# Altium integrated library Diode - Rectifier.IntLib: 777 symbols (part 10 of 12)
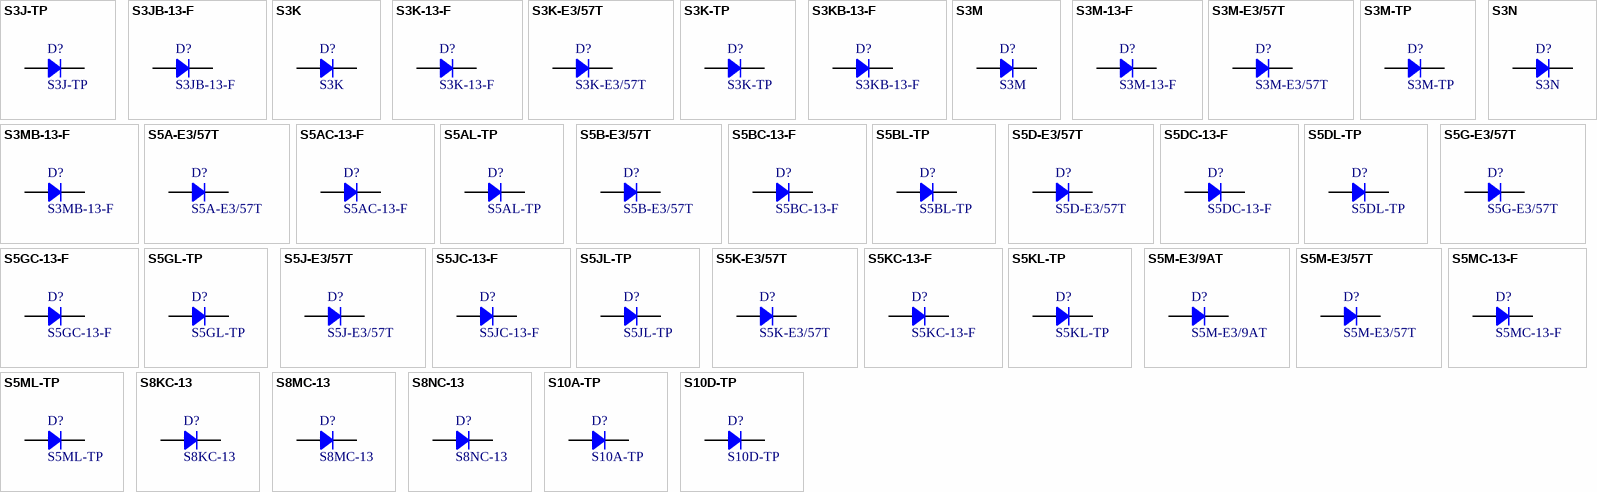
[diagram p28: symbols S3J-TP to S10D-TP]

## S5GC-13-F
designator D?
DIODE GEN PURP 400V 5A SMC; Manufacturer: Diodes Incorporated; Type: Standard; Current Reverse Leakage @ Vr: 10uA @ 400V; Voltage Forward (Vf): 1.15V @ 5A; Part Number: S5GC-13-F; PartId: 16197; Supplier 1: Digi-Key; Supplier Part Number 1: S5GC-FDITR-ND; ComponentLink1Description: Datasheet; ComponentLink1URL: http://www.diodes.com/_files/datasheets/ds16007.pdf; ComponentLink2Description: Digi-Key Listing; ComponentLink2URL: https://www.digikey.com/product-detail/en/diodes-incorporated/S5GC-13-F/S5GC-FDITR-ND/765422; Junction Operating Temperature: -65C ~ 150C; Price: 0.132; Device Package: DO-214AB, SMC; Voltage DC Reverse (Vr): 400V; Current Rectified: 5A
footprint DO214AB SMC
pins: 1, 2

## S5GL-TP
designator D?
DIODE GEN PURP 400V 5A DO214AB; Manufacturer: Micro Commercial Co; Type: Standard; Current Reverse Leakage @ Vr: 10uA @ 400V; Voltage Forward (Vf): 1.2V @ 5A; Part Number: S5GL-TP; PartId: 27909; Supplier 1: Digi-Key; Supplier Part Number 1: S5GL-TPCT-ND; ComponentLink1Description: Datasheet; ComponentLink1URL: http://www.mccsemi.com/up_pdf/S5AL~S5ML(SMC).PDF; ComponentLink2Description: Digi-Key Listing; ComponentLink2URL: https://www.digikey.com/product-detail/en/micro-commercial-co/S5GL-TP/S5GL-TPCT-ND/1306220; Junction Operating Temperature: -55C ~ 150C; Price: 0.49; Device Package: DO-214AB, SMC; Voltage DC Reverse (Vr): 400V; Current Rectified: 5A
footprint ST DO214AB SMC
pins: 1, 2

## S5J-E3/57T
designator D?
DIODE GEN PURP 600V 5A DO214AB; Manufacturer: Vishay Semiconductor Diodes Division; Type: Standard; Current Reverse Leakage @ Vr: 10uA @ 600V; Reverse Recovery Time (trr): 2.5us; Voltage Forward (Vf): 1.15V @ 5A; Part Number: S5J-E3/57T; PartId: 27739; Supplier 1: Digi-Key; Supplier Part Number 1: S5J-E3/57TGICT-ND; ComponentLink1Description: Datasheet; ComponentLink1URL: http://www.vishay.com/docs/88931/s5a.pdf; ComponentLink2Description: Digi-Key Listing; ComponentLink2URL: https://www.digikey.com/product-detail/en/vishay-semiconductor-diodes-division/S5J-E3-57T/S5J-E3-57TGICT-ND/1091614; Junction Operating Temperature: -55C ~ 150C; Price: 0.45; Device Package: DO-214AB, SMC; Voltage DC Reverse (Vr): 600V; Current Rectified: 5A
footprint ST DO214AB SMC
pins: 1, 2

## S5JC-13-F
designator D?
DIODE GEN PURP 600V 5A SMC; Manufacturer: Diodes Incorporated; Type: Standard; Current Reverse Leakage @ Vr: 10uA @ 600V; Voltage Forward (Vf): 1.15V @ 5A; Part Number: S5JC-13-F; PartId: 16202; Supplier 1: Digi-Key; Supplier Part Number 1: S5JC-FDITR-ND; ComponentLink1Description: Datasheet; ComponentLink1URL: http://www.diodes.com/_files/datasheets/ds16007.pdf; ComponentLink2Description: Digi-Key Listing; ComponentLink2URL: https://www.digikey.com/product-detail/en/diodes-incorporated/S5JC-13-F/S5JC-FDITR-ND/814737; Junction Operating Temperature: -65C ~ 150C; Price: 0.186; Device Package: DO-214AB, SMC; Voltage DC Reverse (Vr): 600V; Current Rectified: 5A
footprint DO214AB SMC
pins: 1, 2

## S5JL-TP
designator D?
DIODE GEN PURP 600V 5A DO214AB; Manufacturer: Micro Commercial Co; Type: Standard; Current Reverse Leakage @ Vr: 10uA @ 600V; Voltage Forward (Vf): 1.2V @ 5A; Part Number: S5JL-TP; PartId: 27820; Supplier 1: Digi-Key; Supplier Part Number 1: S5JL-TPCT-ND; ComponentLink1Description: Datasheet; ComponentLink1URL: http://www.mccsemi.com/up_pdf/S5AL~S5ML(SMC).PDF; ComponentLink2Description: Digi-Key Listing; ComponentLink2URL: https://www.digikey.com/product-detail/en/micro-commercial-co/S5JL-TP/S5JL-TPCT-ND/1306221; Junction Operating Temperature: -55C ~ 150C; Price: 0.49; Device Package: DO-214AB, SMC; Voltage DC Reverse (Vr): 600V; Current Rectified: 5A
footprint ST DO214AB SMC
pins: 1, 2

## S5K-E3/57T
designator D?
DIODE GEN PURP 800V 5A DO214AB; Manufacturer: Vishay Semiconductor Diodes Division; Type: Standard; Current Reverse Leakage @ Vr: 10uA @ 800V; Reverse Recovery Time (trr): 2.5us; Voltage Forward (Vf): 1.15V @ 5A; Part Number: S5K-E3/57T; PartId: 27817; Supplier 1: Digi-Key; Supplier Part Number 1: S5K-E3/57TGICT-ND; ComponentLink1Description: Datasheet; ComponentLink1URL: http://www.vishay.com/docs/88931/s5a.pdf; ComponentLink2Description: Digi-Key Listing; ComponentLink2URL: https://www.digikey.com/product-detail/en/vishay-semiconductor-diodes-division/S5K-E3-57T/S5K-E3-57TGICT-ND/4498272; Junction Operating Temperature: -55C ~ 150C; Price: 0.45; Device Package: DO-214AB, SMC; Voltage DC Reverse (Vr): 800V; Current Rectified: 5A
footprint ST DO214AB SMC
pins: 1, 2

## S5KC-13-F
designator D?
DIODE GEN PURP 800V 5A SMC; Manufacturer: Diodes Incorporated; Type: Standard; Current Reverse Leakage @ Vr: 10uA @ 800V; Voltage Forward (Vf): 1.15V @ 5A; Part Number: S5KC-13-F; PartId: 16222; Supplier 1: Digi-Key; Supplier Part Number 1: S5KC-FDITR-ND; ComponentLink1Description: Datasheet; ComponentLink1URL: http://www.diodes.com/_files/datasheets/ds16007.pdf; ComponentLink2Description: Digi-Key Listing; ComponentLink2URL: https://www.digikey.com/product-detail/en/diodes-incorporated/S5KC-13-F/S5KC-FDITR-ND/814736; Junction Operating Temperature: -65C ~ 150C; Price: 0.186; Device Package: DO-214AB, SMC; Voltage DC Reverse (Vr): 800V; Current Rectified: 5A
footprint DO214AB SMC
pins: 1, 2

## S5KL-TP
designator D?
DIODE GEN PURP 800V 5A DO214AB; Manufacturer: Micro Commercial Co; Type: Standard; Current Reverse Leakage @ Vr: 10uA @ 800V; Voltage Forward (Vf): 1.2V @ 5A; Part Number: S5KL-TP; PartId: 27824; Supplier 1: Digi-Key; Supplier Part Number 1: S5KL-TPCT-ND; ComponentLink1Description: Datasheet; ComponentLink1URL: http://www.mccsemi.com/up_pdf/S5AL~S5ML(SMC).PDF; ComponentLink2Description: Digi-Key Listing; ComponentLink2URL: https://www.digikey.com/product-detail/en/micro-commercial-co/S5KL-TP/S5KL-TPCT-ND/1306222; Junction Operating Temperature: -55C ~ 150C; Price: 0.49; Device Package: DO-214AB, SMC; Voltage DC Reverse (Vr): 800V; Current Rectified: 5A
footprint ST DO214AB SMC
pins: 1, 2

## S5M-E3/9AT
designator D?
DIODE GEN PURP 1KV 5A DO214AB; Manufacturer: Vishay Semiconductor Diodes Division; Type: Standard; Current Reverse Leakage @ Vr: 10uA @ 1000V; Reverse Recovery Time (trr): 2.5us; Voltage DC Reverse (Vr): 1000V (1kV); Voltage Forward (Vf): 1.15V @ 5A; Part Number: S5M-E3/9AT; PartId: 27769; Supplier 1: Digi-Key; Supplier Part Number 1: S5M-E3/9ATGICT-ND; ComponentLink1Description: Datasheet; ComponentLink1URL: http://www.vishay.com/docs/88931/s5a.pdf; ComponentLink2Description: Digi-Key Listing; ComponentLink2URL: https://www.digikey.com/product-detail/en/vishay-semiconductor-diodes-division/S5M-E3-9AT/S5M-E3-9ATGICT-ND/4498219; Junction Operating Temperature: -55C ~ 150C; Price: 0.45; Device Package: DO-214AB, SMC; Current Rectified: 5A
footprint ST DO214AB SMC
pins: 1, 2

## S5M-E3/57T
designator D?
DIODE GEN PURP 1KV 5A DO214AB; Manufacturer: Vishay Semiconductor Diodes Division; Type: Standard; Current Reverse Leakage @ Vr: 10uA @ 1000V; Reverse Recovery Time (trr): 2.5us; Voltage DC Reverse (Vr): 1000V (1kV); Voltage Forward (Vf): 1.15V @ 5A; Part Number: S5M-E3/57T; PartId: 27738; Supplier 1: Digi-Key; Supplier Part Number 1: S5M-E3/57TGICT-ND; ComponentLink1Description: Datasheet; ComponentLink1URL: http://www.vishay.com/docs/88931/s5a.pdf; ComponentLink2Description: Digi-Key Listing; ComponentLink2URL: https://www.digikey.com/product-detail/en/vishay-semiconductor-diodes-division/S5M-E3-57T/S5M-E3-57TGICT-ND/1091615; Junction Operating Temperature: -55C ~ 150C; Price: 0.45; Device Package: DO-214AB, SMC; Current Rectified: 5A
footprint ST DO214AB SMC
pins: 1, 2

## S5MC-13-F
designator D?
DIODE GEN PURP 1KV 5A SMC; Manufacturer: Diodes Incorporated; Type: Standard; Current Reverse Leakage @ Vr: 10uA @ 1000V; Voltage DC Reverse (Vr): 1000V (1kV); Voltage Forward (Vf): 1.15V @ 5A; Part Number: S5MC-13-F; PartId: 16201; Supplier 1: Digi-Key; Supplier Part Number 1: S5MC-FDITR-ND; ComponentLink1Description: Datasheet; ComponentLink1URL: http://www.diodes.com/_files/datasheets/ds16007.pdf; ComponentLink2Description: Digi-Key Listing; ComponentLink2URL: https://www.digikey.com/product-detail/en/diodes-incorporated/S5MC-13-F/S5MC-FDITR-ND/814735; Junction Operating Temperature: -65C ~ 150C; Price: 0.186; Device Package: DO-214AB, SMC; Current Rectified: 5A
footprint DO214AB SMC
pins: 1, 2

## S5ML-TP
designator D?
DIODE GEN PURP 1KV 5A DO214AB; Manufacturer: Micro Commercial Co; Type: Standard; Current Reverse Leakage @ Vr: 10uA @ 1000V; Voltage DC Reverse (Vr): 1000V (1kV); Voltage Forward (Vf): 1.2V @ 5A; Part Number: S5ML-TP; PartId: 27770; Supplier 1: Digi-Key; Supplier Part Number 1: S5ML-TPCT-ND; ComponentLink1Description: Datasheet; ComponentLink1URL: http://www.mccsemi.com/up_pdf/S5AL~S5ML(SMC).PDF; ComponentLink2Description: Digi-Key Listing; ComponentLink2URL: https://www.digikey.com/product-detail/en/micro-commercial-co/S5ML-TP/S5ML-TPCT-ND/1306223; Junction Operating Temperature: -55C ~ 150C; Price: 0.49; Device Package: DO-214AB, SMC; Current Rectified: 5A
footprint ST DO214AB SMC
pins: 1, 2

## S8KC-13
designator D?
DIODE GEN PURP 800V 8A SMC; Manufacturer: Diodes Incorporated; Type: Standard; Current Reverse Leakage @ Vr: 10uA @ 800V; Voltage Forward (Vf): 985mV @ 8A; Part Number: S8KC-13; PartId: 16208; Supplier 1: Digi-Key; Supplier Part Number 1: S8KCDITR-ND; ComponentLink1Description: Datasheet; ComponentLink1URL: http://www.diodes.com/_files/datasheets/ds31117.pdf; ComponentLink2Description: Digi-Key Listing; ComponentLink2URL: https://www.digikey.com/product-detail/en/diodes-incorporated/S8KC-13/S8KCDITR-ND/1774310; Junction Operating Temperature: -65C ~ 150C; Price: 0.232; Device Package: DO-214AB, SMC; Voltage DC Reverse (Vr): 800V; Current Rectified: 8A
footprint DO214AB SMC
pins: 1, 2

## S8MC-13
designator D?
DIODE GEN PURP 1KV 8A SMC; Manufacturer: Diodes Incorporated; Type: Standard; Current Reverse Leakage @ Vr: 10uA @ 1000V; Voltage DC Reverse (Vr): 1000V (1kV); Voltage Forward (Vf): 985mV @ 8A; Part Number: S8MC-13; PartId: 16207; Supplier 1: Digi-Key; Supplier Part Number 1: S8MCDITR-ND; ComponentLink1Description: Datasheet; ComponentLink1URL: http://www.diodes.com/_files/datasheets/ds31117.pdf; ComponentLink2Description: Digi-Key Listing; ComponentLink2URL: https://www.digikey.com/product-detail/en/diodes-incorporated/S8MC-13/S8MCDITR-ND/1774311; Junction Operating Temperature: -65C ~ 150C; Price: 0.232; Device Package: DO-214AB, SMC; Current Rectified: 8A
footprint DO214AB SMC
pins: 1, 2

## S8NC-13
designator D?
RECTIFIER 1200V 8A SMC; Manufacturer: Diodes Incorporated; Type: Standard; Current Reverse Leakage @ Vr: 10uA @ 1200V; Voltage DC Reverse (Vr): 1200V (1.2kV); Voltage Forward (Vf): 1.1V @ 8A; Part Number: S8NC-13; PartId: 16227; Supplier 1: Digi-Key; Supplier Part Number 1: S8NC-13DITR-ND; ComponentLink1Description: Datasheet; ComponentLink1URL: http://diodes.com/_files/datasheets/S8NC.pdf; ComponentLink2Description: Digi-Key Listing; ComponentLink2URL: https://www.digikey.com/product-detail/en/diodes-incorporated/S8NC-13/S8NC-13DITR-ND/5080341; Junction Operating Temperature: -65C ~ 150C; Price: 0.232; Device Package: DO-214AB, SMC; Current Rectified: 8A
footprint DO214AB SMC
pins: 1, 2

## S10A-TP
designator D?
DIODE GEN PURP 50V 10A DO214AB; Manufacturer: Micro Commercial Co; Type: Standard; Current Reverse Leakage @ Vr: 10uA @ 50V; Voltage Forward (Vf): 1.2V @ 10A; Part Number: S10A-TP; PartId: 27692; Supplier 1: Digi-Key; Supplier Part Number 1: S10A-TPMSCT-ND; ComponentLink1Description: Datasheet; ComponentLink1URL: http://www.mccsemi.com/up_pdf/S10A~S10M(HSMC).PDF; ComponentLink2Description: Digi-Key Listing; ComponentLink2URL: https://www.digikey.com/product-detail/en/micro-commercial-co/S10A-TP/S10A-TPMSCT-ND/2041589; Junction Operating Temperature: -55C ~ 150C; Price: 0.62; Device Package: DO-214AB, SMC; Voltage DC Reverse (Vr): 50V; Current Rectified: 10A
footprint ST DO214AB SMC
pins: 1, 2

## S10D-TP
designator D?
DIODE GEN PURP 200V 10A DO214AB; Manufacturer: Micro Commercial Co; Type: Standard; Current Reverse Leakage @ Vr: 10uA @ 200V; Voltage Forward (Vf): 1.2V @ 10A; Part Number: S10D-TP; PartId: 27746; Supplier 1: Digi-Key; Supplier Part Number 1: S10D-TPMSCT-ND; ComponentLink1Description: Datasheet; ComponentLink1URL: http://www.mccsemi.com/up_pdf/S10A~S10M(HSMC).PDF; ComponentLink2Description: Digi-Key Listing; ComponentLink2URL: https://www.digikey.com/product-detail/en/micro-commercial-co/S10D-TP/S10D-TPMSCT-ND/2041590; Junction Operating Temperature: -55C ~ 150C; Price: 0.62; Device Package: DO-214AB, SMC; Voltage DC Reverse (Vr): 200V; Current Rectified: 10A
footprint ST DO214AB SMC
pins: 1, 2

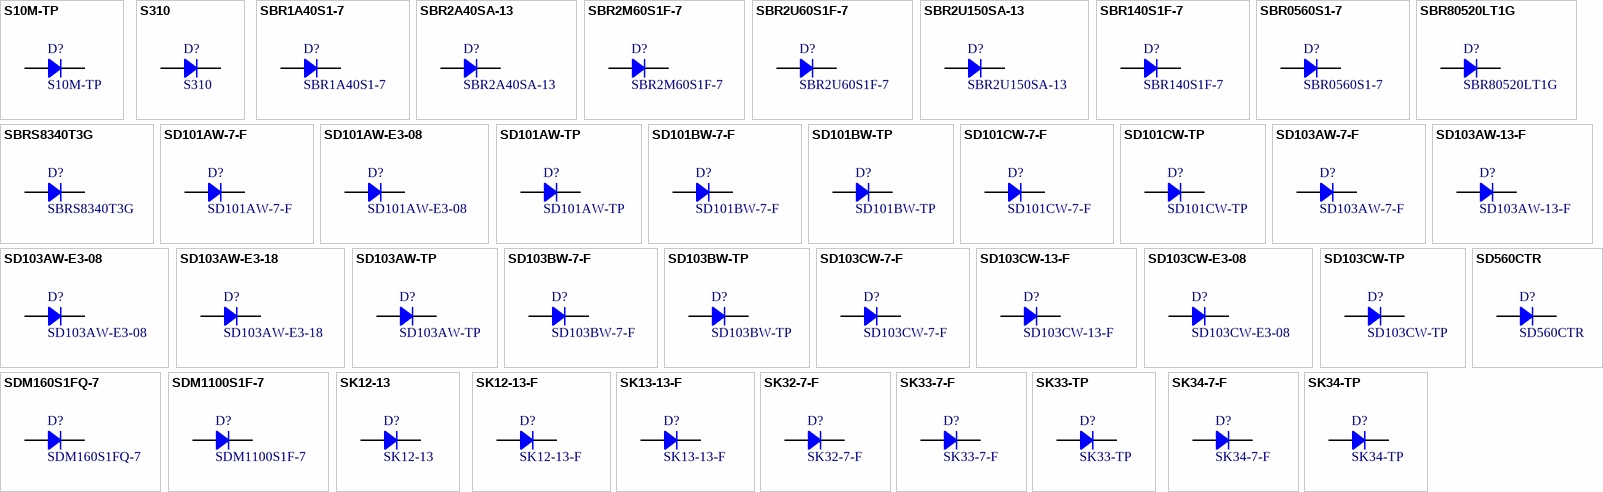
[diagram p15: symbols S10M-TP to SK34-TP]

## S10M-TP
designator D?
DIODE GEN PURP 1KV 10A DO214AB; Manufacturer: Micro Commercial Co; Type: Standard; Current Reverse Leakage @ Vr: 10uA @ 1000V; Voltage DC Reverse (Vr): 1000V (1kV); Voltage Forward (Vf): 1.2V @ 10A; Part Number: S10M-TP; PartId: 27693; Supplier 1: Digi-Key; Supplier Part Number 1: S10M-TPMSCT-ND; ComponentLink1Description: Datasheet; ComponentLink1URL: http://www.mccsemi.com/up_pdf/S10A~S10M(HSMC).PDF; ComponentLink2Description: Digi-Key Listing; ComponentLink2URL: https://www.digikey.com/product-detail/en/micro-commercial-co/S10M-TP/S10M-TPMSCT-ND/2041591; Junction Operating Temperature: -55C ~ 150C; Price: 0.62; Device Package: DO-214AB, SMC; Current Rectified: 10A
footprint ST DO214AB SMC
pins: 1, 2

## S310
designator D?
DIODE SCHOTTKY 100V 3A SMC; Manufacturer: Fairchild/ON Semiconductor; Current Reverse Leakage @ Vr: 500uA @ 100V; Voltage Forward (Vf): 850mV @ 3A; Part Number: S310; PartId: 27861; Supplier 1: Digi-Key; Supplier Part Number 1: S310FSCT-ND; ComponentLink1Description: Datasheet; ComponentLink1URL: https://www.fairchildsemi.com/datasheets/S3/S310.pdf; ComponentLink2Description: Digi-Key Listing; ComponentLink2URL: https://www.digikey.com/product-detail/en/fairchild-on-semiconductor/S310/S310FSCT-ND/3042700; Junction Operating Temperature: -55C ~ 150C; Price: 0.74; Type: Schottky; Device Package: DO-214AB, SMC; Voltage DC Reverse (Vr): 100V; Current Rectified: 3A
footprint ST DO214AB SMC
pins: 1, 2

## SBR1A40S1-7
designator D?
DIODE SBR 40V 1A SOD123; Manufacturer: Diodes Incorporated; Type: Super Barrier; Current Reverse Leakage @ Vr: 200uA @ 40V; Voltage Forward (Vf): 520mV @ 1A; Part Number: SBR1A40S1-7; PartId: 14616; Supplier 1: Digi-Key; Supplier Part Number 1: SBR1A40S1-7DITR-ND; ComponentLink1Description: Datasheet; ComponentLink1URL: http://www.diodes.com/_files/datasheets/SBR1A40S1.pdf; ComponentLink2Description: Digi-Key Listing; ComponentLink2URL: https://www.digikey.com/product-detail/en/diodes-incorporated/SBR1A40S1-7/SBR1A40S1-7DITR-ND/2755992; Junction Operating Temperature: -65C ~ 150C; Price: 0.1094; Device Package: SOD-123; Voltage DC Reverse (Vr): 40V; Current Rectified: 1A
footprint SOD-123
pins: 1, 2

## SBR2A40SA-13
designator D?
DIODE SBR 40V 2A SMA; Manufacturer: Diodes Incorporated; Type: Super Barrier; Current Reverse Leakage @ Vr: 500uA @ 40V; Voltage Forward (Vf): 550mV @ 2A; Part Number: SBR2A40SA-13; PartId: 16363; Supplier 1: Digi-Key; Supplier Part Number 1: SBR2A40SA-13DITR-ND; ComponentLink1Description: Datasheet; ComponentLink1URL: http://www.diodes.com/_files/datasheets/SBR2A40SA.pdf; ComponentLink2Description: Digi-Key Listing; ComponentLink2URL: https://www.digikey.com/product-detail/en/diodes-incorporated/SBR2A40SA-13/SBR2A40SA-13DITR-ND/2179750; Junction Operating Temperature: -65C ~ 150C; Price: 0.145; Device Package: DO-214AC, SMA; Voltage DC Reverse (Vr): 40V; Current Rectified: 2A
footprint DO214AC SMA
pins: 1, 2

## SBR2M60S1F-7
designator D?
DIODE SBR 60V 2A SOD123F; Manufacturer: Diodes Incorporated; Type: Super Barrier; Current Reverse Leakage @ Vr: 800nA @ 60V; Voltage Forward (Vf): 700mV @ 2A; Part Number: SBR2M60S1F-7; PartId: 29245; Supplier 1: Digi-Key; Supplier Part Number 1: SBR2M60S1F-7DICT-ND; ComponentLink1Description: Datasheet; ComponentLink1URL: http://www.diodes.com/_files/datasheets/SBR2M60S1F.pdf; ComponentLink2Description: Digi-Key Listing; ComponentLink2URL: https://www.digikey.com/product-detail/en/diodes-incorporated/SBR2M60S1F-7/SBR2M60S1F-7DICT-ND/6574823; Junction Operating Temperature: -65C ~ 175C; Price: 0.4; Device Package: SOD-123F; Voltage DC Reverse (Vr): 60V; Current Rectified: 2A
footprint SOD123F
pins: 1, 2

## SBR2U60S1F-7
designator D?
DIODE SBR 60V 2A SOD123F; Manufacturer: Diodes Incorporated; Type: Super Barrier; Current Reverse Leakage @ Vr: 150uA @ 60V; Voltage Forward (Vf): 510mV @ 2A; Part Number: SBR2U60S1F-7; PartId: 29272; Supplier 1: Digi-Key; Supplier Part Number 1: SBR2U60S1F-7DICT-ND; ComponentLink1Description: Datasheet; ComponentLink1URL: http://www.diodes.com/_files/datasheets/SBR2U60S1F.pdf; ComponentLink2Description: Digi-Key Listing; ComponentLink2URL: https://www.digikey.com/product-detail/en/diodes-incorporated/SBR2U60S1F-7/SBR2U60S1F-7DICT-ND/6010176; Junction Operating Temperature: -55C ~ 175C; Price: 0.4; Device Package: SOD-123F; Voltage DC Reverse (Vr): 60V; Current Rectified: 2A
footprint SOD123F
pins: 1, 2

## SBR2U150SA-13
designator D?
DIODE SBR 150V 2A SMA; Manufacturer: Diodes Incorporated; Type: Super Barrier; Current Reverse Leakage @ Vr: 75uA @ 150V; Voltage Forward (Vf): 800mV @ 2A; Part Number: SBR2U150SA-13; PartId: 16344; Supplier 1: Digi-Key; Supplier Part Number 1: SBR2U150SA-13DITR-ND; ComponentLink1Description: Datasheet; ComponentLink1URL: http://www.diodes.com/_files/datasheets/SBR2U150SA.pdf; ComponentLink2Description: Digi-Key Listing; ComponentLink2URL: https://www.digikey.com/product-detail/en/diodes-incorporated/SBR2U150SA-13/SBR2U150SA-13DITR-ND/2756000; Junction Operating Temperature: -65C ~ 175C; Price: 0.2295; Device Package: DO-214AC, SMA; Voltage DC Reverse (Vr): 150V; Current Rectified: 2A
footprint DO214AC SMA
pins: 1, 2

## SBR140S1F-7
designator D?
DIODE SBR 40V 1A SOD123F; Manufacturer: Diodes Incorporated; Type: Super Barrier; Current Reverse Leakage @ Vr: 100uA @ 40V; Voltage Forward (Vf): 510mV @ 1A; Part Number: SBR140S1F-7; PartId: 29217; Supplier 1: Digi-Key; Supplier Part Number 1: SBR140S1F-7DICT-ND; ComponentLink1Description: Datasheet; ComponentLink1URL: http://diodes.com/_files/datasheets/SBR140S1F.pdf; ComponentLink2Description: Digi-Key Listing; ComponentLink2URL: https://www.digikey.com/product-detail/en/diodes-incorporated/SBR140S1F-7/SBR140S1F-7DICT-ND/3983764; Junction Operating Temperature: -55C ~ 150C; Price: 0.41; Device Package: SOD-123F; Voltage DC Reverse (Vr): 40V; Current Rectified: 1A
footprint SOD123F
pins: 1, 2

## SBR0560S1-7
designator D?
DIODE SBR 60V 500MA SOD123; Manufacturer: Diodes Incorporated; Type: Super Barrier; Current Reverse Leakage @ Vr: 100uA @ 60V; Voltage Forward (Vf): 500mV @ 500mA; Part Number: SBR0560S1-7; PartId: 14613; Supplier 1: Digi-Key; Supplier Part Number 1: SBR0560S1DITR-ND; ComponentLink1Description: Datasheet; ComponentLink1URL: http://diodes.com/_files/datasheets/SBR0560S1.pdf; ComponentLink2Description: Digi-Key Listing; ComponentLink2URL: https://www.digikey.com/product-detail/en/diodes-incorporated/SBR0560S1-7/SBR0560S1DITR-ND/2075437; Junction Operating Temperature: -65C ~ 150C; Price: 0.085; Device Package: SOD-123; Voltage DC Reverse (Vr): 60V; Current Rectified: 500mA
footprint SOD-123
pins: 1, 2

## SBR80520LT1G
designator D?
DIODE SCHOTTKY 20V 500MA SOD123; Manufacturer: ON Semiconductor; Current Reverse Leakage @ Vr: 250uA @ 20V; Voltage Forward (Vf): 385mV @ 500mA; Part Number: SBR80520LT1G; PartId: 29413; Supplier 1: Digi-Key; Supplier Part Number 1: SBR80520LT1GOSCT-ND; ComponentLink1Description: Datasheet; ComponentLink1URL: http://www.onsemi.com/pub/Collateral/MBR0520LT1-D.PDF; ComponentLink2Description: Digi-Key Listing; ComponentLink2URL: https://www.digikey.com/product-detail/en/on-semiconductor/SBR80520LT1G/SBR80520LT1GOSCT-ND/5969271; Junction Operating Temperature: -65C ~ 125C; Price: 0.42; Type: Schottky; Device Package: SOD-123; Voltage DC Reverse (Vr): 20V; Current Rectified: 500mA
footprint SOD-123
pins: 1, 2

## SBRS8340T3G
designator D?
DIODE SCHOTTKY 40V 3A SMC; Manufacturer: ON Semiconductor; Current Reverse Leakage @ Vr: 2mA @ 40V; Voltage Forward (Vf): 500mV @ 3A; Part Number: SBRS8340T3G; PartId: 27742; Supplier 1: Digi-Key; Supplier Part Number 1: SBRS8340T3GOSCT-ND; ComponentLink1Description: Datasheet; ComponentLink1URL: http://www.onsemi.com/pub/Collateral/MBRS340T3-D.PDF; ComponentLink2Description: Digi-Key Listing; ComponentLink2URL: https://www.digikey.com/product-detail/en/on-semiconductor/SBRS8340T3G/SBRS8340T3GOSCT-ND/3487489; Junction Operating Temperature: -65C ~ 150C; Price: 0.57; Type: Schottky; Device Package: DO-214AB, SMC; Voltage DC Reverse (Vr): 40V; Current Rectified: 3A
footprint ST DO214AB SMC
pins: 1, 2

## SD101AW-7-F
designator D?
DIODE SCHOTTKY 60V 15MA SOD123; Manufacturer: Diodes Incorporated; Current Reverse Leakage @ Vr: 200nA @ 50V; Reverse Recovery Time (trr): 1ns; Current Rectified: 15mA (DC); Voltage Forward (Vf): 1V @ 15mA; Part Number: SD101AW-7-F; PartId: 14608; Supplier 1: Digi-Key; Supplier Part Number 1: SD101AW-7FDITR-ND; ComponentLink1Description: Datasheet; ComponentLink1URL: http://www.diodes.com/_files/datasheets/ds11012.pdf; ComponentLink2Description: Digi-Key Listing; ComponentLink2URL: https://www.digikey.com/product-detail/en/diodes-incorporated/SD101AW-7-F/SD101AW-7FDITR-ND/1155357; Junction Operating Temperature: -65C ~ 125C; Price: 0.081; Type: Schottky; Device Package: SOD-123; Voltage DC Reverse (Vr): 60V
footprint SOD-123
pins: 1, 2

## SD101AW-E3-08
designator D?
DIODE SCHOTTKY 400MW 60V SOD123; Manufacturer: Vishay Semiconductor Diodes Division; Current Reverse Leakage @ Vr: 200nA @ 50V; Reverse Recovery Time (trr): 1ns; Current Rectified: 30mA (DC); Voltage Forward (Vf): 1V @ 15mA; Part Number: SD101AW-E3-08; PartId: 29408; Supplier 1: Digi-Key; Supplier Part Number 1: SD101AW-E3-08GICT-ND; ComponentLink1Description: Datasheet; ComponentLink1URL: http://www.vishay.com/docs/85679/85679.pdf; ComponentLink2Description: Digi-Key Listing; ComponentLink2URL: https://www.digikey.com/product-detail/en/vishay-semiconductor-diodes-division/SD101AW-E3-08/SD101AW-E3-08GICT-ND/6228504; Junction Operating Temperature: -55C ~ 125C; Price: 0.33; Type: Schottky; Device Package: SOD-123; Voltage DC Reverse (Vr): 60V
footprint SOD-123
pins: 1, 2

## SD101AW-TP
designator D?
DIODE SCHOTTKY 60V 15MA SOD123; Manufacturer: Micro Commercial Co; Current Reverse Leakage @ Vr: 200nA @ 50V; Reverse Recovery Time (trr): 1ns; Current Rectified: 15mA (DC); Voltage Forward (Vf): 1V @ 15mA; Part Number: SD101AW-TP; PartId: 29371; Supplier 1: Digi-Key; Supplier Part Number 1: SD101AWTPMSCT-ND; ComponentLink1Description: Datasheet; ComponentLink1URL: http://www.mccsemi.com/up_pdf/SD101AW-SD101CW(SOD-123).PDF; ComponentLink2Description: Digi-Key Listing; ComponentLink2URL: https://www.digikey.com/product-detail/en/micro-commercial-co/SD101AW-TP/SD101AWTPMSCT-ND/717414; Junction Operating Temperature: 125C (Max); Price: 0.35; Type: Schottky; Device Package: SOD-123; Voltage DC Reverse (Vr): 60V
footprint SOD-123
pins: 1, 2

## SD101BW-7-F
designator D?
DIODE SCHOTTKY 50V 15MA SOD123; Manufacturer: Diodes Incorporated; Current Reverse Leakage @ Vr: 200nA @ 40V; Reverse Recovery Time (trr): 1ns; Current Rectified: 15mA (DC); Voltage Forward (Vf): 950mV @ 15mA; Part Number: SD101BW-7-F; PartId: 14610; Supplier 1: Digi-Key; Supplier Part Number 1: SD101BW-FDITR-ND; ComponentLink1Description: Datasheet; ComponentLink1URL: http://www.diodes.com/_files/datasheets/ds11012.pdf; ComponentLink2Description: Digi-Key Listing; ComponentLink2URL: https://www.digikey.com/product-detail/en/diodes-incorporated/SD101BW-7-F/SD101BW-FDITR-ND/1935416; Junction Operating Temperature: -65C ~ 125C; Price: 0.081; Type: Schottky; Device Package: SOD-123; Voltage DC Reverse (Vr): 50V
footprint SOD-123
pins: 1, 2

## SD101BW-TP
designator D?
DIODE SCHOTTKY 50V 15MA SOD123; Manufacturer: Micro Commercial Co; Current Reverse Leakage @ Vr: 200nA @ 40V; Reverse Recovery Time (trr): 1ns; Current Rectified: 15mA (DC); Voltage Forward (Vf): 950mV @ 15mA; Part Number: SD101BW-TP; PartId: 29420; Supplier 1: Digi-Key; Supplier Part Number 1: SD101BWTPMSCT-ND; ComponentLink1Description: Datasheet; ComponentLink1URL: http://www.mccsemi.com/up_pdf/SD101AW-SD101CW(SOD-123).PDF; ComponentLink2Description: Digi-Key Listing; ComponentLink2URL: https://www.digikey.com/product-detail/en/micro-commercial-co/SD101BW-TP/SD101BWTPMSCT-ND/717416; Junction Operating Temperature: 125C (Max); Price: 0.35; Type: Schottky; Device Package: SOD-123; Voltage DC Reverse (Vr): 50V
footprint SOD-123
pins: 1, 2

## SD101CW-7-F
designator D?
DIODE SCHOTTKY 40V 15MA SOD123; Manufacturer: Diodes Incorporated; Current Reverse Leakage @ Vr: 200nA @ 30V; Reverse Recovery Time (trr): 1ns; Current Rectified: 15mA (DC); Voltage Forward (Vf): 900mV @ 15mA; Part Number: SD101CW-7-F; PartId: 14609; Supplier 1: Digi-Key; Supplier Part Number 1: SD101CW-FDITR-ND; ComponentLink1Description: Datasheet; ComponentLink1URL: http://www.diodes.com/_files/datasheets/ds11012.pdf; ComponentLink2Description: Digi-Key Listing; ComponentLink2URL: https://www.digikey.com/product-detail/en/diodes-incorporated/SD101CW-7-F/SD101CW-FDITR-ND/1206639; Junction Operating Temperature: -65C ~ 125C; Price: 0.081; Type: Schottky; Device Package: SOD-123; Voltage DC Reverse (Vr): 40V
footprint SOD-123
pins: 1, 2

## SD101CW-TP
designator D?
DIODE SCHOTTKY 40V 15MA SOD123; Manufacturer: Micro Commercial Co; Current Reverse Leakage @ Vr: 200nA @ 30V; Reverse Recovery Time (trr): 1ns; Current Rectified: 15mA (DC); Voltage Forward (Vf): 900mV @ 15mA; Part Number: SD101CW-TP; PartId: 29400; Supplier 1: Digi-Key; Supplier Part Number 1: SD101CWTPMSCT-ND; ComponentLink1Description: Datasheet; ComponentLink1URL: http://www.mccsemi.com/up_pdf/SD101AW-SD101CW(SOD-123).PDF; ComponentLink2Description: Digi-Key Listing; ComponentLink2URL: https://www.digikey.com/product-detail/en/micro-commercial-co/SD101CW-TP/SD101CWTPMSCT-ND/717418; Junction Operating Temperature: 125C (Max); Price: 0.35; Type: Schottky; Device Package: SOD-123; Voltage DC Reverse (Vr): 40V
footprint SOD-123
pins: 1, 2

## SD103AW-7-F
designator D?
DIODE SCHOTTKY 40V 350MA SOD123; Manufacturer: Diodes Incorporated; Current Reverse Leakage @ Vr: 5uA @ 30V; Reverse Recovery Time (trr): 10ns; Current Rectified: 350mA (DC); Voltage Forward (Vf): 600mV @ 200mA; Part Number: SD103AW-7-F; PartId: 14607; Supplier 1: Digi-Key; Supplier Part Number 1: SD103AW7-FDITR-ND; ComponentLink1Description: Datasheet; ComponentLink1URL: http://www.diodes.com/_files/datasheets/ds11013.pdf; ComponentLink2Description: Digi-Key Listing; ComponentLink2URL: https://www.digikey.com/product-detail/en/diodes-incorporated/SD103AW-7-F/SD103AW7-FDITR-ND/1306103; Junction Operating Temperature: -65C ~ 125C; Price: 0.081; Type: Schottky; Device Package: SOD-123; Voltage DC Reverse (Vr): 40V
footprint SOD-123
pins: 1, 2

## SD103AW-13-F
designator D?
DIODE SCHOTTKY 40V 350MA SOD123; Manufacturer: Diodes Incorporated; Current Reverse Leakage @ Vr: 5uA @ 30V; Reverse Recovery Time (trr): 10ns; Current Rectified: 350mA (DC); Voltage Forward (Vf): 600mV @ 200mA; Part Number: SD103AW-13-F; PartId: 14602; Supplier 1: Digi-Key; Supplier Part Number 1: SD103AW-FDITR-ND; ComponentLink1Description: Datasheet; ComponentLink1URL: http://www.diodes.com/_files/datasheets/ds11013.pdf; ComponentLink2Description: Digi-Key Listing; ComponentLink2URL: https://www.digikey.com/product-detail/en/diodes-incorporated/SD103AW-13-F/SD103AW-FDITR-ND/969733; Junction Operating Temperature: -65C ~ 125C; Price: 0.0697; Type: Schottky; Device Package: SOD-123; Voltage DC Reverse (Vr): 40V
footprint SOD-123
pins: 1, 2

## SD103AW-E3-08
designator D?
DIODE SCHOTTKY 40V SOD123; Manufacturer: Vishay Semiconductor Diodes Division; Current Reverse Leakage @ Vr: 5uA @ 30V; Reverse Recovery Time (trr): 10ns; Voltage Forward (Vf): 600mV @ 200mA; Part Number: SD103AW-E3-08; PartId: 29383; Supplier 1: Digi-Key; Supplier Part Number 1: SD103AW-E3-08CT-ND; ComponentLink1Description: Datasheet; ComponentLink1URL: http://www.vishay.com/docs/85681/sd103aw.pdf; ComponentLink2Description: Digi-Key Listing; ComponentLink2URL: https://www.digikey.com/product-detail/en/vishay-semiconductor-diodes-division/SD103AW-E3-08/SD103AW-E3-08CT-ND/3104491; Junction Operating Temperature: 125C (Max); Price: 0.35; Type: Schottky; Device Package: SOD-123; Voltage DC Reverse (Vr): 40V
footprint SOD-123
pins: 1, 2

## SD103AW-E3-18
designator D?
DIODE SCHOTTKY 40V SOD123; Manufacturer: Vishay Semiconductor Diodes Division; Current Reverse Leakage @ Vr: 5uA @ 30V; Reverse Recovery Time (trr): 10ns; Voltage Forward (Vf): 600mV @ 200mA; Part Number: SD103AW-E3-18; PartId: 29370; Supplier 1: Digi-Key; Supplier Part Number 1: SD103AW-E3-18CT-ND; ComponentLink1Description: Datasheet; ComponentLink1URL: http://www.vishay.com/docs/85681/sd103aw.pdf; ComponentLink2Description: Digi-Key Listing; ComponentLink2URL: https://www.digikey.com/product-detail/en/vishay-semiconductor-diodes-division/SD103AW-E3-18/SD103AW-E3-18CT-ND/3104492; Junction Operating Temperature: 125C (Max); Price: 0.35; Type: Schottky; Device Package: SOD-123; Voltage DC Reverse (Vr): 40V
footprint SOD-123
pins: 1, 2

## SD103AW-TP
designator D?
DIODE SCHOTTKY 40V 350MA SOD123; Manufacturer: Micro Commercial Co; Current Reverse Leakage @ Vr: 5uA @ 30V; Reverse Recovery Time (trr): 10ns; Voltage Forward (Vf): 600mV @ 200mA; Part Number: SD103AW-TP; PartId: 29373; Supplier 1: Digi-Key; Supplier Part Number 1: SD103AWTPMSCT-ND; ComponentLink1Description: Datasheet; ComponentLink1URL: http://www.mccsemi.com/up_pdf/SD103AW-SD103CW(SOD-123).PDF; ComponentLink2Description: Digi-Key Listing; ComponentLink2URL: https://www.digikey.com/product-detail/en/micro-commercial-co/SD103AW-TP/SD103AWTPMSCT-ND/717420; Junction Operating Temperature: -55C ~ 125C; Price: 0.35; Type: Schottky; Device Package: SOD-123; Voltage DC Reverse (Vr): 40V; Current Rectified: 350mA
footprint SOD-123
pins: 1, 2

## SD103BW-7-F
designator D?
DIODE SCHOTTKY 30V 350MA SOD123; Manufacturer: Diodes Incorporated; Current Reverse Leakage @ Vr: 5uA @ 20V; Reverse Recovery Time (trr): 10ns; Current Rectified: 350mA (DC); Voltage Forward (Vf): 600mV @ 200mA; Part Number: SD103BW-7-F; PartId: 29390; Supplier 1: Digi-Key; Supplier Part Number 1: SD103BW-7-FDICT-ND; ComponentLink1Description: Datasheet; ComponentLink1URL: http://www.diodes.com/_files/datasheets/ds11013.pdf; ComponentLink2Description: Digi-Key Listing; ComponentLink2URL: https://www.digikey.com/product-detail/en/diodes-incorporated/SD103BW-7-F/SD103BW-7-FDICT-ND/3053320; Junction Operating Temperature: -65C ~ 125C; Price: 0.39; Type: Schottky; Device Package: SOD-123; Voltage DC Reverse (Vr): 30V
footprint SOD-123
pins: 1, 2

## SD103BW-TP
designator D?
DIODE SCHOTTKY 30V 350MA SOD123; Manufacturer: Micro Commercial Co; Current Reverse Leakage @ Vr: 5uA @ 20V; Reverse Recovery Time (trr): 10ns; Voltage Forward (Vf): 600mV @ 200mA; Part Number: SD103BW-TP; PartId: 29422; Supplier 1: Digi-Key; Supplier Part Number 1: SD103BWTPMSCT-ND; ComponentLink1Description: Datasheet; ComponentLink1URL: http://www.mccsemi.com/up_pdf/SD103AW-SD103CW(SOD-123).PDF; ComponentLink2Description: Digi-Key Listing; ComponentLink2URL: https://www.digikey.com/product-detail/en/micro-commercial-co/SD103BW-TP/SD103BWTPMSCT-ND/717422; Junction Operating Temperature: -55C ~ 125C; Price: 0.35; Type: Schottky; Device Package: SOD-123; Voltage DC Reverse (Vr): 30V; Current Rectified: 350mA
footprint SOD-123
pins: 1, 2

## SD103CW-7-F
designator D?
DIODE SCHOTTKY 20V 350MA SOD123; Manufacturer: Diodes Incorporated; Current Reverse Leakage @ Vr: 5uA @ 10V; Reverse Recovery Time (trr): 10ns; Current Rectified: 350mA (DC); Voltage Forward (Vf): 600mV @ 200mA; Part Number: SD103CW-7-F; PartId: 14611; Supplier 1: Digi-Key; Supplier Part Number 1: SD103CW-7-FDITR-ND; ComponentLink1Description: Datasheet; ComponentLink1URL: http://www.diodes.com/_files/datasheets/ds11013.pdf; ComponentLink2Description: Digi-Key Listing; ComponentLink2URL: https://www.digikey.com/product-detail/en/diodes-incorporated/SD103CW-7-F/SD103CW-7-FDITR-ND/1935418; Junction Operating Temperature: -65C ~ 125C; Price: 0.081; Type: Schottky; Device Package: SOD-123; Voltage DC Reverse (Vr): 20V
footprint SOD-123
pins: 1, 2

## SD103CW-13-F
designator D?
DIODE SCHOTTKY 20V 350MA SOD123; Manufacturer: Diodes Incorporated; Current Reverse Leakage @ Vr: 5uA @ 10V; Reverse Recovery Time (trr): 10ns; Current Rectified: 350mA (DC); Voltage Forward (Vf): 600mV @ 200mA; Part Number: SD103CW-13-F; PartId: 14603; Supplier 1: Digi-Key; Supplier Part Number 1: SD103CW-FDITR-ND; ComponentLink1Description: Datasheet; ComponentLink1URL: http://www.diodes.com/_files/datasheets/ds11013.pdf; ComponentLink2Description: Digi-Key Listing; ComponentLink2URL: https://www.digikey.com/product-detail/en/diodes-incorporated/SD103CW-13-F/SD103CW-FDITR-ND/725030; Junction Operating Temperature: -65C ~ 125C; Price: 0.0697; Type: Schottky; Device Package: SOD-123; Voltage DC Reverse (Vr): 20V
footprint SOD-123
pins: 1, 2

## SD103CW-E3-08
designator D?
DIODE SCHOTTKY 20V SOD123; Manufacturer: Vishay Semiconductor Diodes Division; Current Reverse Leakage @ Vr: 5uA @ 10V; Reverse Recovery Time (trr): 10ns; Voltage Forward (Vf): 600mV @ 200mA; Part Number: SD103CW-E3-08; PartId: 29403; Supplier 1: Digi-Key; Supplier Part Number 1: SD103CW-E3-08CT-ND; ComponentLink1Description: Datasheet; ComponentLink1URL: http://www.vishay.com/docs/85681/sd103aw.pdf; ComponentLink2Description: Digi-Key Listing; ComponentLink2URL: https://www.digikey.com/product-detail/en/vishay-semiconductor-diodes-division/SD103CW-E3-08/SD103CW-E3-08CT-ND/3104493; Junction Operating Temperature: 125C (Max); Price: 0.35; Type: Schottky; Device Package: SOD-123; Voltage DC Reverse (Vr): 20V
footprint SOD-123
pins: 1, 2

## SD103CW-TP
designator D?
DIODE SCHOTTKY 20V 350MA SOD123; Manufacturer: Micro Commercial Co; Current Reverse Leakage @ Vr: 5uA @ 10V; Reverse Recovery Time (trr): 10ns; Voltage Forward (Vf): 600mV @ 200mA; Part Number: SD103CW-TP; PartId: 29372; Supplier 1: Digi-Key; Supplier Part Number 1: SD103CWTPMSCT-ND; ComponentLink1Description: Datasheet; ComponentLink1URL: http://www.mccsemi.com/up_pdf/SD103AW-SD103CW(SOD-123).PDF; ComponentLink2Description: Digi-Key Listing; ComponentLink2URL: https://www.digikey.com/product-detail/en/micro-commercial-co/SD103CW-TP/SD103CWTPMSCT-ND/717424; Junction Operating Temperature: -55C ~ 125C; Price: 0.35; Type: Schottky; Device Package: SOD-123; Voltage DC Reverse (Vr): 20V; Current Rectified: 350mA
footprint SOD-123
pins: 1, 2

## SD560CTR
designator D?
DIODE GEN PURP 60V 5A SMC; Manufacturer: SMC Diode Solutions; Type: Standard; Current Reverse Leakage @ Vr: 2mA @ 60V; Voltage Forward (Vf): 750mV @ 5A; Part Number: SD560CTR; PartId: 27815; Supplier 1: Digi-Key; Supplier Part Number 1: 1655-1531-1-ND; ComponentLink1Description: Datasheet; ComponentLink1URL: http://www.smc-diodes.com/propdf/SD560C%20N1346%20REV.-.pdf; ComponentLink2Description: Digi-Key Listing; ComponentLink2URL: https://www.digikey.com/product-detail/en/smc-diode-solutions/SD560CTR/1655-1531-1-ND/6022976; Junction Operating Temperature: -55C ~ 125C; Price: 0.45; Device Package: DO-214AB, SMC; Voltage DC Reverse (Vr): 60V; Current Rectified: 5A
footprint ST DO214AB SMC
pins: 1, 2

## SDM160S1FQ-7
designator D?
DIODE SCHOTTKY 60V 1A SOD123F; Manufacturer: Diodes Incorporated; Current Reverse Leakage @ Vr: 60uA @ 60V; Voltage Forward (Vf): 530mV @ 1A; Part Number: SDM160S1FQ-7; PartId: 29252; Supplier 1: Digi-Key; Supplier Part Number 1: SDM160S1FQ-7DICT-ND; ComponentLink1Description: Datasheet; ComponentLink1URL: http://www.diodes.com/_files/datasheets/SDM160S1FQ.pdf; ComponentLink2Description: Digi-Key Listing; ComponentLink2URL: https://www.digikey.com/product-detail/en/diodes-incorporated/SDM160S1FQ-7/SDM160S1FQ-7DICT-ND/6198130; Junction Operating Temperature: -55C ~ 175C; Price: 0.47; Type: Schottky; Device Package: SOD-123F; Voltage DC Reverse (Vr): 60V; Current Rectified: 1A
footprint SOD123F
pins: 1, 2

## SDM1100S1F-7
designator D?
DIODE SCHOTTKY 100V 1A SOD123F; Manufacturer: Diodes Incorporated; Current Reverse Leakage @ Vr: 5uA @ 100V; Voltage Forward (Vf): 820mV @ 1A; Part Number: SDM1100S1F-7; PartId: 29289; Supplier 1: Digi-Key; Supplier Part Number 1: SDM1100S1F-7DICT-ND; ComponentLink1Description: Datasheet; ComponentLink1URL: http://www.diodes.com/_files/datasheets/SDM1100S1F.pdf; ComponentLink2Description: Digi-Key Listing; ComponentLink2URL: https://www.digikey.com/product-detail/en/diodes-incorporated/SDM1100S1F-7/SDM1100S1F-7DICT-ND/6010180; Junction Operating Temperature: -55C ~ 150C; Price: 0.47; Type: Schottky; Device Package: SOD-123F; Voltage DC Reverse (Vr): 100V; Current Rectified: 1A
footprint SOD123F
pins: 1, 2

## SK12-13
designator D?
DIODE SCHOTTKY 20V 1A SMB; Manufacturer: Diodes Incorporated; Current Reverse Leakage @ Vr: 500uA @ 20V; Voltage Forward (Vf): 550mV @ 1A; Part Number: SK12-13; PartId: 16314; Supplier 1: Digi-Key; Supplier Part Number 1: 981-SK12-13-CHP; ComponentLink1Description: Datasheet; ComponentLink1URL: //media.digikey.com/pdf/Data%20Sheets/Diodes%20PDFs/SK12-SK16.pdf; ComponentLink2Description: Digi-Key Listing; ComponentLink2URL: https://www.digikey.com/product-detail/en/diodes-incorporated/SK12-13/981-SK12-13-CHP/2344485; Junction Operating Temperature: -65C ~ 125C; Price: 0.1743; Type: Schottky; Device Package: DO-214AA, SMB; Voltage DC Reverse (Vr): 20V; Current Rectified: 1A
footprint DO214AA SMB
pins: 1, 2

## SK12-13-F
designator D?
DIODE SCHOTTKY 20V 1A SMB; Manufacturer: Diodes Incorporated; Current Reverse Leakage @ Vr: 500uA @ 20V; Voltage Forward (Vf): 550mV @ 1A; Part Number: SK12-13-F; PartId: 16263; Supplier 1: Digi-Key; Supplier Part Number 1: SK12-FDITR-ND; ComponentLink1Description: Datasheet; ComponentLink1URL: //media.digikey.com/pdf/Data%20Sheets/Diodes%20PDFs/SK12-SK16.pdf; ComponentLink2Description: Digi-Key Listing; ComponentLink2URL: https://www.digikey.com/product-detail/en/diodes-incorporated/SK12-13-F/SK12-FDITR-ND/814698; Junction Operating Temperature: -65C ~ 125C; Price: 0.2175; Type: Schottky; Device Package: DO-214AA, SMB; Voltage DC Reverse (Vr): 20V; Current Rectified: 1A
footprint DO214AA SMB
pins: 1, 2

## SK13-13-F
designator D?
DIODE SCHOTTKY 30V 1A SMB; Manufacturer: Diodes Incorporated; Current Reverse Leakage @ Vr: 500uA @ 30V; Voltage Forward (Vf): 550mV @ 1A; Part Number: SK13-13-F; PartId: 16264; Supplier 1: Digi-Key; Supplier Part Number 1: SK13-FDITR-ND; ComponentLink1Description: Datasheet; ComponentLink1URL: //media.digikey.com/pdf/Data%20Sheets/Diodes%20PDFs/SK12-SK16.pdf; ComponentLink2Description: Digi-Key Listing; ComponentLink2URL: https://www.digikey.com/product-detail/en/diodes-incorporated/SK13-13-F/SK13-FDITR-ND/725031; Junction Operating Temperature: -65C ~ 125C; Price: 0.2247; Type: Schottky; Device Package: DO-214AA, SMB; Voltage DC Reverse (Vr): 30V; Current Rectified: 1A
footprint DO214AA SMB
pins: 1, 2

## SK32-7-F
designator D?
DIODE SCHOTTKY 20V 3A SMC; Manufacturer: Diodes Incorporated; Current Reverse Leakage @ Vr: 500uA @ 20V; Voltage Forward (Vf): 500mV @ 3A; Part Number: SK32-7-F; PartId: 16230; Supplier 1: Digi-Key; Supplier Part Number 1: SK32-FDITR-ND; ComponentLink1Description: Datasheet; ComponentLink1URL: //media.digikey.com/pdf/Data%20Sheets/Diodes%20PDFs/SK32-SK36.pdf; ComponentLink2Description: Digi-Key Listing; ComponentLink2URL: https://www.digikey.com/product-detail/en/diodes-incorporated/SK32-7-F/SK32-FDITR-ND/814701; Junction Operating Temperature: -65C ~ 150C; Price: 0.684; Type: Schottky; Device Package: DO-214AB, SMC; Voltage DC Reverse (Vr): 20V; Current Rectified: 3A
footprint DO214AB SMC
pins: 1, 2

## SK33-7-F
designator D?
DIODE SCHOTTKY 30V 3A SMC; Manufacturer: Diodes Incorporated; Current Reverse Leakage @ Vr: 500uA @ 30V; Voltage Forward (Vf): 500mV @ 3A; Part Number: SK33-7-F; PartId: 27890; Supplier 1: Digi-Key; Supplier Part Number 1: SK33-FDICT-ND; ComponentLink1Description: Datasheet; ComponentLink1URL: //media.digikey.com/pdf/Data%20Sheets/Diodes%20PDFs/SK32-SK36.pdf; ComponentLink2Description: Digi-Key Listing; ComponentLink2URL: https://www.digikey.com/product-detail/en/diodes-incorporated/SK33-7-F/SK33-FDICT-ND/815991; Junction Operating Temperature: -65C ~ 150C; Price: 0.54; Type: Schottky; Device Package: DO-214AB, SMC; Voltage DC Reverse (Vr): 30V; Current Rectified: 3A
footprint ST DO214AB SMC
pins: 1, 2

## SK33-TP
designator D?
DIODE SCHOTTKY 30V 3A DO214AB; Manufacturer: Micro Commercial Co; Current Reverse Leakage @ Vr: 500uA @ 30V; Voltage Forward (Vf): 500mV @ 3A; Part Number: SK33-TP; PartId: 27768; Supplier 1: Digi-Key; Supplier Part Number 1: SK33-TPMSCT-ND; ComponentLink1Description: Datasheet; ComponentLink1URL: http://www.mccsemi.com/up_pdf/SK32-SK310(DO-214AB).PDF; ComponentLink2Description: Digi-Key Listing; ComponentLink2URL: https://www.digikey.com/product-detail/en/micro-commercial-co/SK33-TP/SK33-TPMSCT-ND/773726; Junction Operating Temperature: -55C ~ 150C; Price: 0.48; Type: Schottky; Device Package: DO-214AB, SMC; Voltage DC Reverse (Vr): 30V; Current Rectified: 3A
footprint ST DO214AB SMC
pins: 1, 2

## SK34-7-F
designator D?
DIODE SCHOTTKY 40V 3A SMC; Manufacturer: Diodes Incorporated; Current Reverse Leakage @ Vr: 500uA @ 40V; Voltage Forward (Vf): 500mV @ 3A; Part Number: SK34-7-F; PartId: 16231; Supplier 1: Digi-Key; Supplier Part Number 1: SK34-FDITR-ND; ComponentLink1Description: Datasheet; ComponentLink1URL: //media.digikey.com/pdf/Data%20Sheets/Diodes%20PDFs/SK32-SK36.pdf; ComponentLink2Description: Digi-Key Listing; ComponentLink2URL: https://www.digikey.com/product-detail/en/diodes-incorporated/SK34-7-F/SK34-FDITR-ND/806553; Junction Operating Temperature: -65C ~ 150C; Price: 0.722; Type: Schottky; Device Package: DO-214AB, SMC; Voltage DC Reverse (Vr): 40V; Current Rectified: 3A
footprint DO214AB SMC
pins: 1, 2

## SK34-TP
designator D?
DIODE SCHOTTKY 40V 3A DO214AB; Manufacturer: Micro Commercial Co; Current Reverse Leakage @ Vr: 500uA @ 40V; Voltage Forward (Vf): 500mV @ 3A; Part Number: SK34-TP; PartId: 27725; Supplier 1: Digi-Key; Supplier Part Number 1: SK34-TPMSCT-ND; ComponentLink1Description: Datasheet; ComponentLink1URL: http://www.mccsemi.com/up_pdf/SK32-SK310(DO-214AB).PDF; ComponentLink2Description: Digi-Key Listing; ComponentLink2URL: https://www.digikey.com/product-detail/en/micro-commercial-co/SK34-TP/SK34-TPMSCT-ND/773727; Junction Operating Temperature: -55C ~ 150C; Price: 0.48; Type: Schottky; Device Package: DO-214AB, SMC; Voltage DC Reverse (Vr): 40V; Current Rectified: 3A
footprint ST DO214AB SMC
pins: 1, 2

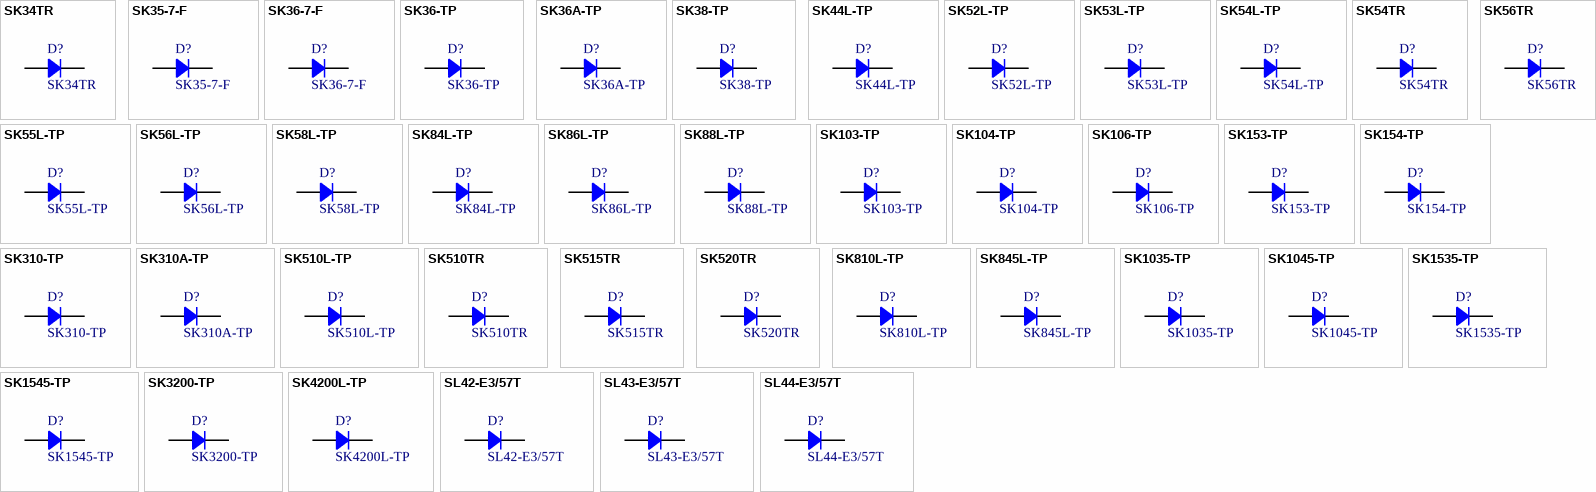
[diagram p16: symbols SK34TR to SL44-E3/57T]

## SK34TR
designator D?
DIODE SCHOTTKY 40V 3A SMB; Manufacturer: SMC Diode Solutions; Current Reverse Leakage @ Vr: 50uA @ 40V; Voltage Forward (Vf): 630mV @ 3A; Part Number: SK34TR; PartId: 27795; Supplier 1: Digi-Key; Supplier Part Number 1: 1655-1593-1-ND; ComponentLink1Description: Datasheet; ComponentLink1URL: http://www.smc-diodes.com/propdf/SK34%20N0102%20REV.-.pdf; ComponentLink2Description: Digi-Key Listing; ComponentLink2URL: https://www.digikey.com/product-detail/en/smc-diode-solutions/SK34TR/1655-1593-1-ND/6023038; Junction Operating Temperature: -55C ~ 150C; Price: 0.51; Type: Schottky; Device Package: DO-214AB, SMC; Voltage DC Reverse (Vr): 40V; Current Rectified: 3A
footprint ST DO214AB SMC
pins: 1, 2

## SK35-7-F
designator D?
DIODE SCHOTTKY 50V 3A SMC; Manufacturer: Diodes Incorporated; Current Reverse Leakage @ Vr: 500uA @ 50V; Voltage Forward (Vf): 750mV @ 3A; Part Number: SK35-7-F; PartId: 16233; Supplier 1: Digi-Key; Supplier Part Number 1: SK35-FDITR-ND; ComponentLink1Description: Datasheet; ComponentLink1URL: //media.digikey.com/pdf/Data%20Sheets/Diodes%20PDFs/SK32-SK36.pdf; ComponentLink2Description: Digi-Key Listing; ComponentLink2URL: https://www.digikey.com/product-detail/en/diodes-incorporated/SK35-7-F/SK35-FDITR-ND/814699; Junction Operating Temperature: -65C ~ 150C; Price: 0.264; Type: Schottky; Device Package: DO-214AB, SMC; Voltage DC Reverse (Vr): 50V; Current Rectified: 3A
footprint DO214AB SMC
pins: 1, 2

## SK36-7-F
designator D?
DIODE SCHOTTKY 60V 3A SMC; Manufacturer: Diodes Incorporated; Current Reverse Leakage @ Vr: 500uA @ 60V; Voltage Forward (Vf): 750mV @ 3A; Part Number: SK36-7-F; PartId: 16237; Supplier 1: Digi-Key; Supplier Part Number 1: SK36-FDITR-ND; ComponentLink1Description: Datasheet; ComponentLink1URL: //media.digikey.com/pdf/Data%20Sheets/Diodes%20PDFs/SK32-SK36.pdf; ComponentLink2Description: Digi-Key Listing; ComponentLink2URL: https://www.digikey.com/product-detail/en/diodes-incorporated/SK36-7-F/SK36-FDITR-ND/814709; Junction Operating Temperature: -65C ~ 150C; Price: 0.3; Type: Schottky; Device Package: DO-214AB, SMC; Voltage DC Reverse (Vr): 60V; Current Rectified: 3A
footprint DO214AB SMC
pins: 1, 2

## SK36-TP
designator D?
DIODE SCHOTTKY 60V 3A DO214AB; Manufacturer: Micro Commercial Co; Current Reverse Leakage @ Vr: 500uA @ 60V; Voltage Forward (Vf): 750mV @ 3A; Part Number: SK36-TP; PartId: 27724; Supplier 1: Digi-Key; Supplier Part Number 1: SK36-TPMSCT-ND; ComponentLink1Description: Datasheet; ComponentLink1URL: http://www.mccsemi.com/up_pdf/SK32-SK310(DO-214AB).PDF; ComponentLink2Description: Digi-Key Listing; ComponentLink2URL: https://www.digikey.com/product-detail/en/micro-commercial-co/SK36-TP/SK36-TPMSCT-ND/773729; Junction Operating Temperature: -55C ~ 150C; Price: 0.48; Type: Schottky; Device Package: DO-214AB, SMC; Voltage DC Reverse (Vr): 60V; Current Rectified: 3A
footprint ST DO214AB SMC
pins: 1, 2

## SK36A-TP
designator D?
DIODE SCHOTTKY 60V 3A DO214AC; Manufacturer: Micro Commercial Co; Current Reverse Leakage @ Vr: 500uA @ 60V; Voltage Forward (Vf): 750mV @ 3A; Part Number: SK36A-TP; PartId: 18055; Supplier 1: Digi-Key; Supplier Part Number 1: SK36A-TPTR-ND; ComponentLink1Description: Datasheet; ComponentLink1URL: http://www.mccsemi.com/up_pdf/SK32A-SK310A(HSMA).PDF; ComponentLink2Description: Digi-Key Listing; ComponentLink2URL: https://www.digikey.com/product-detail/en/micro-commercial-co/SK36A-TP/SK36A-TPTR-ND/950458; Junction Operating Temperature: -50C ~ 125C; Price: 0.157; Type: Schottky; Device Package: DO-214AC, SMA; Voltage DC Reverse (Vr): 60V; Current Rectified: 3A
footprint ST DO214AC SMA
pins: 1, 2

## SK38-TP
designator D?
DIODE SCHOTTKY 80V 3A DO214AB; Manufacturer: Micro Commercial Co; Current Reverse Leakage @ Vr: 500uA @ 80V; Voltage Forward (Vf): 850mV @ 3A; Part Number: SK38-TP; PartId: 27767; Supplier 1: Digi-Key; Supplier Part Number 1: SK38-TPMSCT-ND; ComponentLink1Description: Datasheet; ComponentLink1URL: http://www.mccsemi.com/up_pdf/SK32-SK310(DO-214AB).PDF; ComponentLink2Description: Digi-Key Listing; ComponentLink2URL: https://www.digikey.com/product-detail/en/micro-commercial-co/SK38-TP/SK38-TPMSCT-ND/773730; Junction Operating Temperature: -55C ~ 150C; Price: 0.48; Type: Schottky; Device Package: DO-214AB, SMC; Voltage DC Reverse (Vr): 80V; Current Rectified: 3A
footprint ST DO214AB SMC
pins: 1, 2

## SK44L-TP
designator D?
DIODE SCHOTTKY 4A 40V SMC; Manufacturer: Micro Commercial Co; Current Reverse Leakage @ Vr: 500uA @ 40V; Voltage Forward (Vf): 450mV @ 4A; Part Number: SK44L-TP; PartId: 27829; Supplier 1: Digi-Key; Supplier Part Number 1: SK44L-TPMSCT-ND; ComponentLink1Description: Datasheet; ComponentLink1URL: http://www.mccsemi.com/up_pdf/SK42L-SK44L(DO-214AB).pdf; ComponentLink2Description: Digi-Key Listing; ComponentLink2URL: https://www.digikey.com/product-detail/en/micro-commercial-co/SK44L-TP/SK44L-TPMSCT-ND/5418803; Junction Operating Temperature: -55C ~ 125C; Price: 0.49; Type: Schottky; Device Package: DO-214AB, SMC; Voltage DC Reverse (Vr): 40V; Current Rectified: 4A
footprint ST DO214AB SMC
pins: 1, 2

## SK52L-TP
designator D?
DIODE SCHOTTKY 20V 5A DO214AB; Manufacturer: Micro Commercial Co; Current Reverse Leakage @ Vr: 1mA @ 20V; Voltage Forward (Vf): 550mV @ 5A; Part Number: SK52L-TP; PartId: 27825; Supplier 1: Digi-Key; Supplier Part Number 1: SK52L-TPMSCT-ND; ComponentLink1Description: Datasheet; ComponentLink1URL: http://www.mccsemi.com/up_pdf/SK52L-SK510L(DO-214AB).PDF; ComponentLink2Description: Digi-Key Listing; ComponentLink2URL: https://www.digikey.com/product-detail/en/micro-commercial-co/SK52L-TP/SK52L-TPMSCT-ND/4966296; Junction Operating Temperature: -55C ~ 150C; Price: 0.49; Type: Schottky; Device Package: DO-214AB, SMC; Voltage DC Reverse (Vr): 20V; Current Rectified: 5A
footprint ST DO214AB SMC
pins: 1, 2

## SK53L-TP
designator D?
DIODE SCHOTTKY 30V 5A DO214AB; Manufacturer: Micro Commercial Co; Current Reverse Leakage @ Vr: 1mA @ 30V; Voltage Forward (Vf): 550mV @ 5A; Part Number: SK53L-TP; PartId: 27831; Supplier 1: Digi-Key; Supplier Part Number 1: SK53L-TPMSCT-ND; ComponentLink1Description: Datasheet; ComponentLink1URL: http://www.mccsemi.com/up_pdf/SK52L-SK510L(DO-214AB).PDF; ComponentLink2Description: Digi-Key Listing; ComponentLink2URL: https://www.digikey.com/product-detail/en/micro-commercial-co/SK53L-TP/SK53L-TPMSCT-ND/4966297; Junction Operating Temperature: -55C ~ 150C; Price: 0.49; Type: Schottky; Device Package: DO-214AB, SMC; Voltage DC Reverse (Vr): 30V; Current Rectified: 5A
footprint ST DO214AB SMC
pins: 1, 2